# Altium schematic symbol library Symbol.SchLib: 35 symbols
Pins are listed as number, name and electrical type; pins without a type are passive.

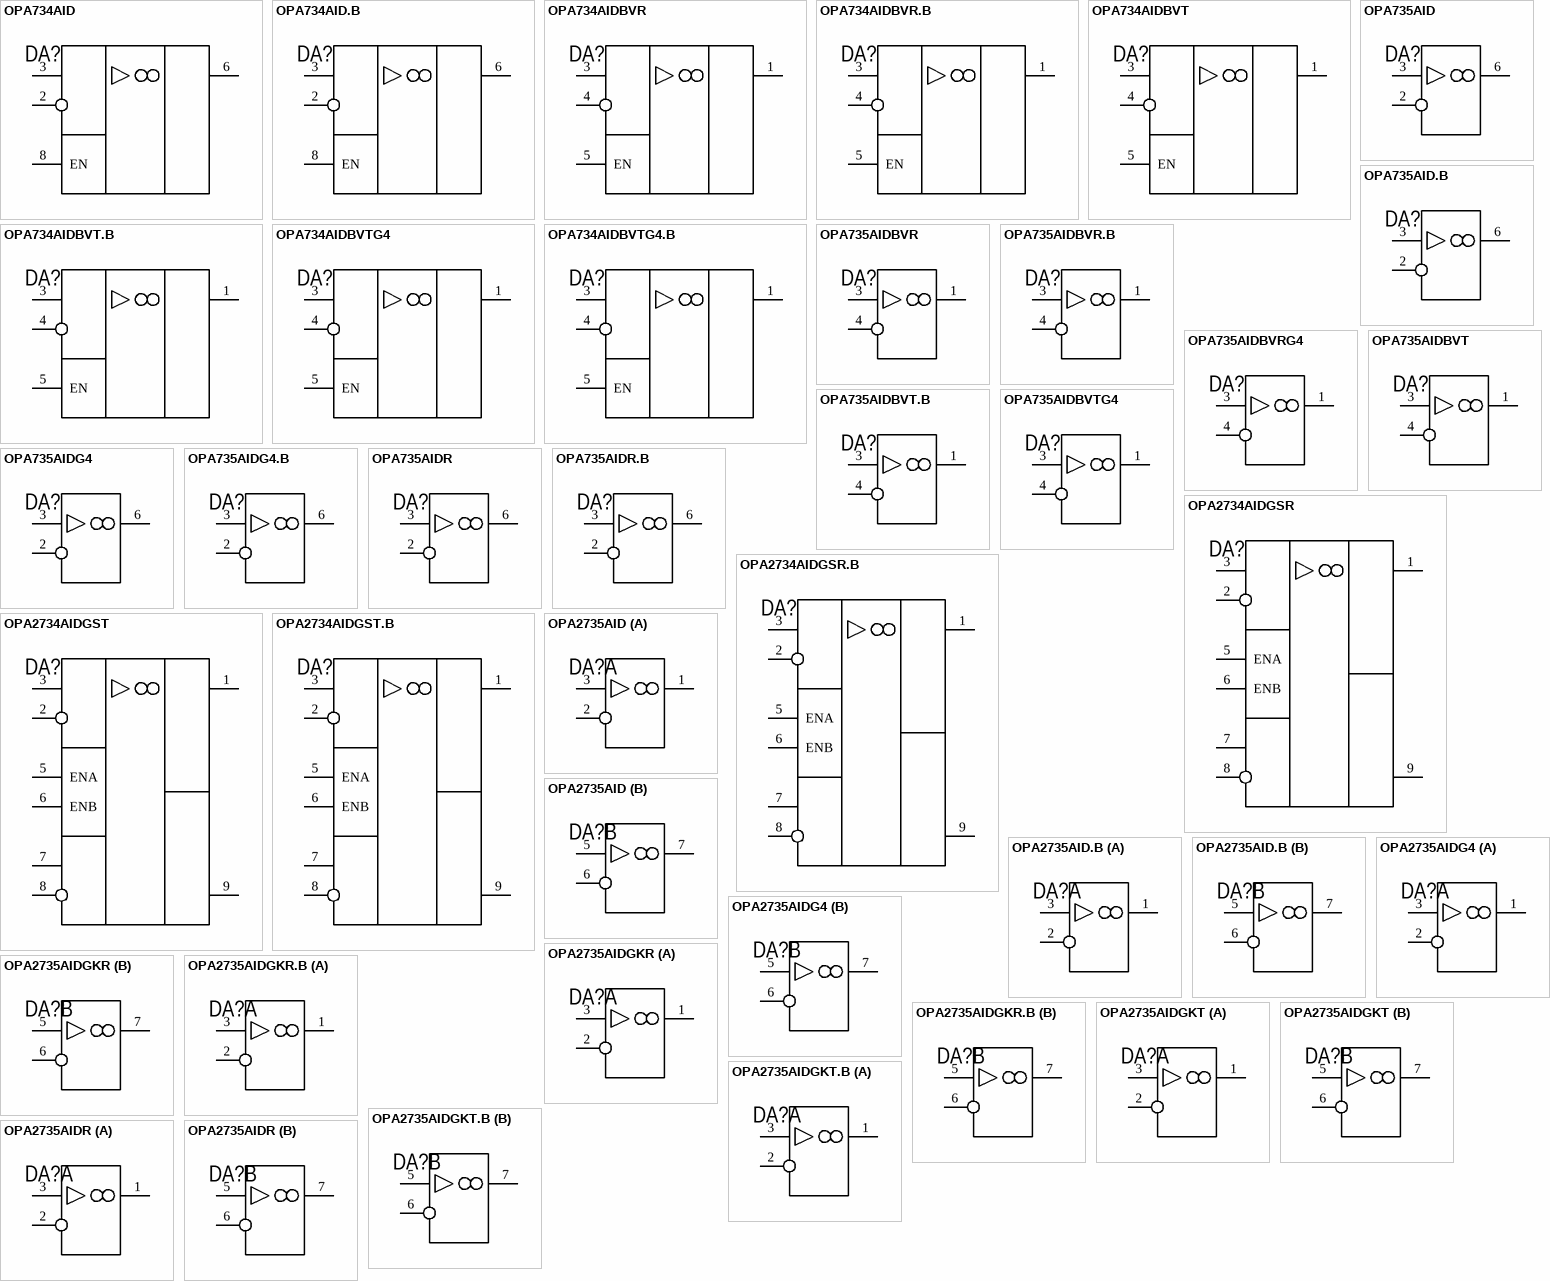
[diagram p0: symbols OPA734AID to OPA2735AIDR]

## OPA734AID
designator DA?  (value not drawn)
0.05µV/°C max, SINGLE-SUPPLY CMOS OPERATIONAL AMPLIFIERS Zer∅-Drift Series
footprint D0008A (SOIC, 8-Leads, Body 5.00x3.90 mm, IPC Medium Density)
pins: 2 -IN, 3 +IN, 6 OUT, 8 EN

## OPA734AID.B
designator DA?  (value not drawn)
0.05µV/°C max, SINGLE-SUPPLY CMOS OPERATIONAL AMPLIFIERS Zer∅-Drift Series
footprint D0008A (SOIC, 8-Leads, Body 5.00x3.90 mm, IPC Medium Density)
pins: 2 -IN, 3 +IN, 6 OUT, 8 EN

## OPA734AIDBVR
designator DA?  (value not drawn)
0.05µV/°C max, SINGLE-SUPPLY CMOS OPERATIONAL AMPLIFIERS Zer∅-Drift Series
footprint DBV0006A (SOT-23, 6-Leads, Body 3.00x1.70 mm, IPC Medium Density)
pins: 1 OUT, 3 +IN, 4 -IN, 5 EN

## OPA734AIDBVR.B
designator DA?  (value not drawn)
0.05µV/°C max, SINGLE-SUPPLY CMOS OPERATIONAL AMPLIFIERS Zer∅-Drift Series
footprint DBV0006A (SOT-23, 6-Leads, Body 3.00x1.70 mm, IPC Medium Density)
pins: 1 OUT, 3 +IN, 4 -IN, 5 EN

## OPA734AIDBVT
designator DA?  (value not drawn)
0.05µV/°C max, SINGLE-SUPPLY CMOS OPERATIONAL AMPLIFIERS Zer∅-Drift Series
footprint DBV0006A (SOT-23, 6-Leads, Body 3.00x1.70 mm, IPC Medium Density)
pins: 1 OUT, 3 +IN, 4 -IN, 5 EN

## OPA734AIDBVT.B
designator DA?  (value not drawn)
0.05µV/°C max, SINGLE-SUPPLY CMOS OPERATIONAL AMPLIFIERS Zer∅-Drift Series
footprint DBV0006A (SOT-23, 6-Leads, Body 3.00x1.70 mm, IPC Medium Density)
pins: 1 OUT, 3 +IN, 4 -IN, 5 EN

## OPA734AIDBVTG4
designator DA?  (value not drawn)
0.05µV/°C max, SINGLE-SUPPLY CMOS OPERATIONAL AMPLIFIERS Zer∅-Drift Series
footprint DBV0006A (SOT-23, 6-Leads, Body 3.00x1.70 mm, IPC Medium Density)
pins: 1 OUT, 3 +IN, 4 -IN, 5 EN

## OPA734AIDBVTG4.B
designator DA?  (value not drawn)
0.05µV/°C max, SINGLE-SUPPLY CMOS OPERATIONAL AMPLIFIERS Zer∅-Drift Series
footprint DBV0006A (SOT-23, 6-Leads, Body 3.00x1.70 mm, IPC Medium Density)
pins: 1 OUT, 3 +IN, 4 -IN, 5 EN

## OPA735AID
designator DA?  (value not drawn)
0.05µV/°C max, SINGLE-SUPPLY CMOS OPERATIONAL AMPLIFIERS Zer∅-Drift Series
footprint D0008A (SOIC, 8-Leads, Body 5.00x3.90 mm, IPC Medium Density)
pins: 2 -IN, 3 +IN, 6 OUT

## OPA735AID.B
designator DA?  (value not drawn)
0.05µV/°C max, SINGLE-SUPPLY CMOS OPERATIONAL AMPLIFIERS Zer∅-Drift Series
footprint D0008A (SOIC, 8-Leads, Body 5.00x3.90 mm, IPC Medium Density)
pins: 2 -IN, 3 +IN, 6 OUT

## OPA735AIDBVR
designator DA?  (value not drawn)
0.05µV/°C max, SINGLE-SUPPLY CMOS OPERATIONAL AMPLIFIERS Zer∅-Drift Series
footprint DBV0005A (SOT-23, 5-Leads, Body 3.00x1.70 mm, IPC Medium Density)
pins: 1 OUT, 3 +IN, 4 -IN

## OPA735AIDBVR.B
designator DA?  (value not drawn)
0.05µV/°C max, SINGLE-SUPPLY CMOS OPERATIONAL AMPLIFIERS Zer∅-Drift Series
footprint DBV0005A (SOT-23, 5-Leads, Body 3.00x1.70 mm, IPC Medium Density)
pins: 1 OUT, 3 +IN, 4 -IN

## OPA735AIDBVRG4
designator DA?  (value not drawn)
0.05µV/°C max, SINGLE-SUPPLY CMOS OPERATIONAL AMPLIFIERS Zer∅-Drift Series
footprint DBV0005A (SOT-23, 5-Leads, Body 3.00x1.70 mm, IPC Medium Density)
pins: 1 OUT, 3 +IN, 4 -IN

## OPA735AIDBVT
designator DA?  (value not drawn)
0.05µV/°C max, SINGLE-SUPPLY CMOS OPERATIONAL AMPLIFIERS Zer∅-Drift Series
footprint DBV0005A (SOT-23, 5-Leads, Body 3.00x1.70 mm, IPC Medium Density)
pins: 1 OUT, 3 +IN, 4 -IN

## OPA735AIDBVT.B
designator DA?  (value not drawn)
0.05µV/°C max, SINGLE-SUPPLY CMOS OPERATIONAL AMPLIFIERS Zer∅-Drift Series
footprint DBV0005A (SOT-23, 5-Leads, Body 3.00x1.70 mm, IPC Medium Density)
pins: 1 OUT, 3 +IN, 4 -IN

## OPA735AIDBVTG4
designator DA?  (value not drawn)
0.05µV/°C max, SINGLE-SUPPLY CMOS OPERATIONAL AMPLIFIERS Zer∅-Drift Series
footprint DBV0005A (SOT-23, 5-Leads, Body 3.00x1.70 mm, IPC Medium Density)
pins: 1 OUT, 3 +IN, 4 -IN

## OPA735AIDG4
designator DA?  (value not drawn)
0.05µV/°C max, SINGLE-SUPPLY CMOS OPERATIONAL AMPLIFIERS Zer∅-Drift Series
footprint D0008A (SOIC, 8-Leads, Body 5.00x3.90 mm, IPC Medium Density)
pins: 2 -IN, 3 +IN, 6 OUT

## OPA735AIDG4.B
designator DA?  (value not drawn)
0.05µV/°C max, SINGLE-SUPPLY CMOS OPERATIONAL AMPLIFIERS Zer∅-Drift Series
footprint D0008A (SOIC, 8-Leads, Body 5.00x3.90 mm, IPC Medium Density)
pins: 2 -IN, 3 +IN, 6 OUT

## OPA735AIDR
designator DA?  (value not drawn)
0.05µV/°C max, SINGLE-SUPPLY CMOS OPERATIONAL AMPLIFIERS Zer∅-Drift Series
footprint D0008A (SOIC, 8-Leads, Body 5.00x3.90 mm, IPC Medium Density)
pins: 2 -IN, 3 +IN, 6 OUT

## OPA735AIDR.B
designator DA?  (value not drawn)
0.05µV/°C max, SINGLE-SUPPLY CMOS OPERATIONAL AMPLIFIERS Zer∅-Drift Series
footprint D0008A (SOIC, 8-Leads, Body 5.00x3.90 mm, IPC Medium Density)
pins: 2 -IN, 3 +IN, 6 OUT

## OPA2734AIDGSR
designator DA?  (value not drawn)
0.05µV/°C max, SINGLE-SUPPLY CMOS OPERATIONAL AMPLIFIERS Zer∅-Drift Series
footprint DGS0010A (VSSOP, 10-Leads, Body 3.00x3.00 mm, IPC Medium Density)
pins: 1 OUT A, 2 -IN A, 3 +IN A, 5 ENA, 6 ENB, 7 +IN B, 8 -IN B, 9 OUT B

## OPA2734AIDGSR.B
designator DA?  (value not drawn)
0.05µV/°C max, SINGLE-SUPPLY CMOS OPERATIONAL AMPLIFIERS Zer∅-Drift Series
footprint DGS0010A (VSSOP, 10-Leads, Body 3.00x3.00 mm, IPC Medium Density)
pins: 1 OUT A, 2 -IN A, 3 +IN A, 5 ENA, 6 ENB, 7 +IN B, 8 -IN B, 9 OUT B

## OPA2734AIDGST
designator DA?  (value not drawn)
0.05µV/°C max, SINGLE-SUPPLY CMOS OPERATIONAL AMPLIFIERS Zer∅-Drift Series
footprint DGS0010A (VSSOP, 10-Leads, Body 3.00x3.00 mm, IPC Medium Density)
pins: 1 OUT A, 2 -IN A, 3 +IN A, 5 ENA, 6 ENB, 7 +IN B, 8 -IN B, 9 OUT B

## OPA2734AIDGST.B
designator DA?  (value not drawn)
0.05µV/°C max, SINGLE-SUPPLY CMOS OPERATIONAL AMPLIFIERS Zer∅-Drift Series
footprint DGS0010A (VSSOP, 10-Leads, Body 3.00x3.00 mm, IPC Medium Density)
pins: 1 OUT A, 2 -IN A, 3 +IN A, 5 ENA, 6 ENB, 7 +IN B, 8 -IN B, 9 OUT B

## OPA2735AID
designator DA?  (value not drawn)
0.05µV/°C max, SINGLE-SUPPLY CMOS OPERATIONAL AMPLIFIERS Zer∅-Drift Series
footprint D0008A (SOIC, 8-Leads, Body 5.00x3.90 mm, IPC Medium Density)
part A pins: 1 OUT A, 2 -IN A, 3 +IN A
part B pins: 5 +IN B, 6 -IN B, 7 OUT B

## OPA2735AID.B
designator DA?  (value not drawn)
0.05µV/°C max, SINGLE-SUPPLY CMOS OPERATIONAL AMPLIFIERS Zer∅-Drift Series
footprint D0008A (SOIC, 8-Leads, Body 5.00x3.90 mm, IPC Medium Density)
part A pins: 1 OUT A, 2 -IN A, 3 +IN A
part B pins: 5 +IN B, 6 -IN B, 7 OUT B

## OPA2735AIDG4
designator DA?  (value not drawn)
0.05µV/°C max, SINGLE-SUPPLY CMOS OPERATIONAL AMPLIFIERS Zer∅-Drift Series
footprint D0008A (SOIC, 8-Leads, Body 5.00x3.90 mm, IPC Medium Density)
part A pins: 1 OUT A, 2 -IN A, 3 +IN A
part B pins: 5 +IN B, 6 -IN B, 7 OUT B

## OPA2735AIDGKR
designator DA?  (value not drawn)
0.05µV/°C max, SINGLE-SUPPLY CMOS OPERATIONAL AMPLIFIERS Zer∅-Drift Series
footprint DGK0008A (VSSOP, 8-Leads, Body 3.00x3.00 mm, IPC Medium Density)
part A pins: 1 OUT A, 2 -IN A, 3 +IN A
part B pins: 5 +IN B, 6 -IN B, 7 OUT B

## OPA2735AIDGKR.B
designator DA?  (value not drawn)
0.05µV/°C max, SINGLE-SUPPLY CMOS OPERATIONAL AMPLIFIERS Zer∅-Drift Series
footprint DGK0008A (VSSOP, 8-Leads, Body 3.00x3.00 mm, IPC Medium Density)
part A pins: 1 OUT A, 2 -IN A, 3 +IN A
part B pins: 5 +IN B, 6 -IN B, 7 OUT B

## OPA2735AIDGKT
designator DA?  (value not drawn)
0.05µV/°C max, SINGLE-SUPPLY CMOS OPERATIONAL AMPLIFIERS Zer∅-Drift Series
footprint DGK0008A (VSSOP, 8-Leads, Body 3.00x3.00 mm, IPC Medium Density)
part A pins: 1 OUT A, 2 -IN A, 3 +IN A
part B pins: 5 +IN B, 6 -IN B, 7 OUT B

## OPA2735AIDGKT.B
designator DA?  (value not drawn)
0.05µV/°C max, SINGLE-SUPPLY CMOS OPERATIONAL AMPLIFIERS Zer∅-Drift Series
footprint DGK0008A (VSSOP, 8-Leads, Body 3.00x3.00 mm, IPC Medium Density)
part A pins: 1 OUT A, 2 -IN A, 3 +IN A
part B pins: 5 +IN B, 6 -IN B, 7 OUT B

## OPA2735AIDR
designator DA?  (value not drawn)
0.05µV/°C max, SINGLE-SUPPLY CMOS OPERATIONAL AMPLIFIERS Zer∅-Drift Series
footprint D0008A (SOIC, 8-Leads, Body 5.00x3.90 mm, IPC Medium Density)
part A pins: 1 OUT A, 2 -IN A, 3 +IN A
part B pins: 5 +IN B, 6 -IN B, 7 OUT B

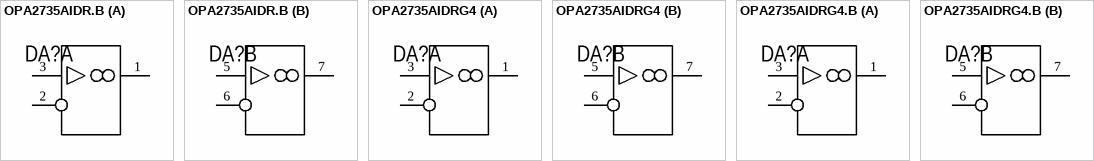
[diagram p1: symbols OPA2735AIDR.B to OPA2735AIDRG4.B]

## OPA2735AIDR.B
designator DA?  (value not drawn)
0.05µV/°C max, SINGLE-SUPPLY CMOS OPERATIONAL AMPLIFIERS Zer∅-Drift Series
footprint D0008A (SOIC, 8-Leads, Body 5.00x3.90 mm, IPC Medium Density)
part A pins: 1 OUT A, 2 -IN A, 3 +IN A
part B pins: 5 +IN B, 6 -IN B, 7 OUT B

## OPA2735AIDRG4
designator DA?  (value not drawn)
0.05µV/°C max, SINGLE-SUPPLY CMOS OPERATIONAL AMPLIFIERS Zer∅-Drift Series
footprint D0008A (SOIC, 8-Leads, Body 5.00x3.90 mm, IPC Medium Density)
part A pins: 1 OUT A, 2 -IN A, 3 +IN A
part B pins: 5 +IN B, 6 -IN B, 7 OUT B

## OPA2735AIDRG4.B
designator DA?  (value not drawn)
0.05µV/°C max, SINGLE-SUPPLY CMOS OPERATIONAL AMPLIFIERS Zer∅-Drift Series
footprint D0008A (SOIC, 8-Leads, Body 5.00x3.90 mm, IPC Medium Density)
part A pins: 1 OUT A, 2 -IN A, 3 +IN A
part B pins: 5 +IN B, 6 -IN B, 7 OUT B